# Altium schematic symbol library SCH - ENCODER - BOURNS PEC11R-4315F-S0012.SchLib: 1 symbol
Pins are listed as number, name and electrical type; pins without a type are passive.

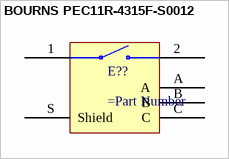
[diagram p0: symbol BOURNS PEC11R-4315F-S0012]

## BOURNS PEC11R-4315F-S0012
designator E??
ROTARY ENCODER MECHANICAL 12PPR; Manufacturer 1: Bourns; Manufacturer Part Number 1: PEC11R-4315F-S0012; Output Type: Quadrature,Incremental; Built in Switch: Yes; Number of Channels: 2; Pulses per Revolution: 12; Capacitance: 4315F; Supplier 1: Digi-Key; Stock 1: 453; Pricing 1: 1=1.91000, 10=1.68200, 25=1.50800, 50=1.45000, 100=1.39200, 250=1.33400, 500=1.10200, 1000=1.04400, 5000=0.87000 (USD); RoHS: Yes; Mount: Through Hole,Panel,PCB; Min Operating Temperature: -30°C; Max Operating Temperature: 70°C; Termination: PC Pin; Packaging: Bulk; Package Quantity: 75; Encoder Type: Mechanical; Detent: Yes; Orientation: Vertical; Length: 21.5mm; Height: 13.4mm; Width: 12.5mm; ComponentLink1URL: http://www.mouser.com/ds/2/54/EC11R-777457.pdf?src-supplier=Mouser; ComponentLink1Description: Datasheet; ComponentLink2URL: https://www.digikey.com/products/en?keywords=PEC11R-4315F-S0012; ComponentLink2Description: DigiKey  Link
pins: 1, 2, A, B, C, S Shield